# Altium schematic symbol library L6398DTR.Schlib: 1 symbol
Pins are listed as number, name and electrical type; pins without a type are passive.

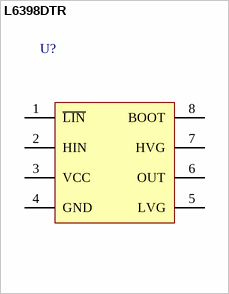
[diagram p0: symbol L6398DTR]

## L6398DTR
designator U?
High voltage high and low-side driver, 600V
pins: 1 ~{LIN}, 2 HIN, 3 VCC, 4 GND, 5 LVG, 6 OUT, 7 HVG, 8 BOOT